# EAGLE library part PBU6U (library switch-e-switch)
6PDT PUSHBUTTON SWITCH
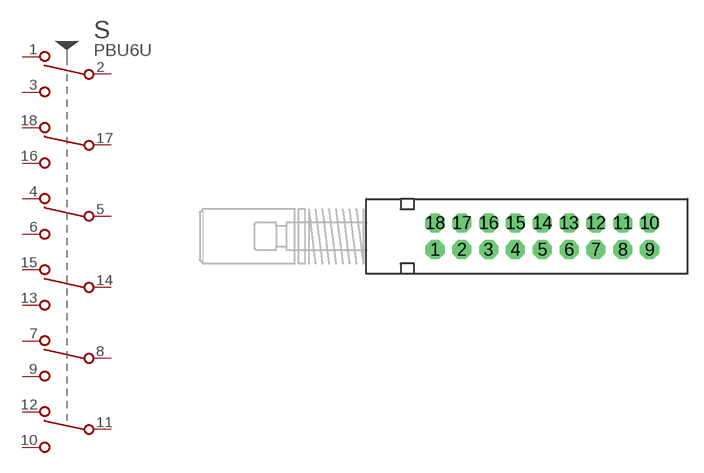
[diagram p10: symbol with the pads of PBH6U; footprint PBH6U]

Designator prefix S

## PBU6U  [PBH6U]
1  A-NC  pas
2  A-COM  pas
3  A-NO  pas
4  C-NC  pas
5  C-COM  pas
6  C-NO  pas
7  E-NC  pas
8  E-COM  pas
9  E-NO  pas
10  F-NO  pas
11  F-COM  pas
12  F-NC  pas
13  D-NO  pas
14  D-COM  pas
15  D-NC  pas
16  B-NO  pas
17  B-COM  pas
18  B-NC  pas

## Footprint PBH6U (pad centres in mm)
Pushbutton Switch PBH Series
drill 0.813 pad 1.778 octagon: 1 -2.5,-1.25; 2 0,-1.25; 3 2.5,-1.25; 4 5,-1.25; 5 7.5,-1.25; 6 10,-1.25; 7 12.5,-1.25; 8 15,-1.25; 9 17.5,-1.25; 10 17.5,1.25; 11 15,1.25; 12 12.5,1.25; 13 10,1.25; 14 7.5,1.25; 15 5,1.25; 16 2.5,1.25; 17 0,1.25; 18 -2.5,1.25